# Altium footprint library GP1S092HCPIF.PcbLib: 1 footprints
Each footprint in its own frame and in the unit in brackets; x right, y up, seen from the top. Pads: shape width x height; smd on the part's side, far side on the other; paste and mask are expansions set on the pad; w line width, h text height; cw(c..) or ccw(c..) is an arc to the next point about the centre after c.
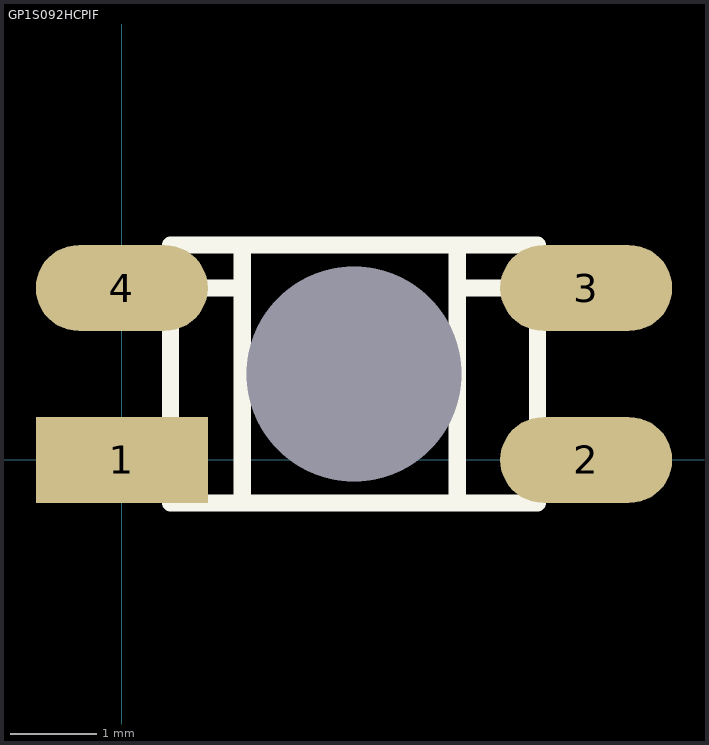
[diagram p0: the footprint, top view; thin cyan lines are the x and y axes]

## GP1S092HCPIF [mm]
pads (5):
  round 0 hole 2.5 paste+2.6 mask+2.6: 0(2.7,1)
  rect 2x1 smd: 1(0,0)
  oval 2x1 smd: 2(5.4,0) 3(5.4,2) 4(0,2)
Top Overlay:
  lines w0.2: 0.565,-0.5 0.565,2.5 4.835,2.5 4.835,-0.5 0.565,-0.5
  lines w0.203: 0.565,2 1.4,2 ; 1.4,-0.5 1.4,2.5 ; 3.9,-0.5 3.9,2.5 ; 3.9,2 4.835,2